# Altium schematic symbol library Interface USB.SchLib: 91 symbols (part 8 of 12)
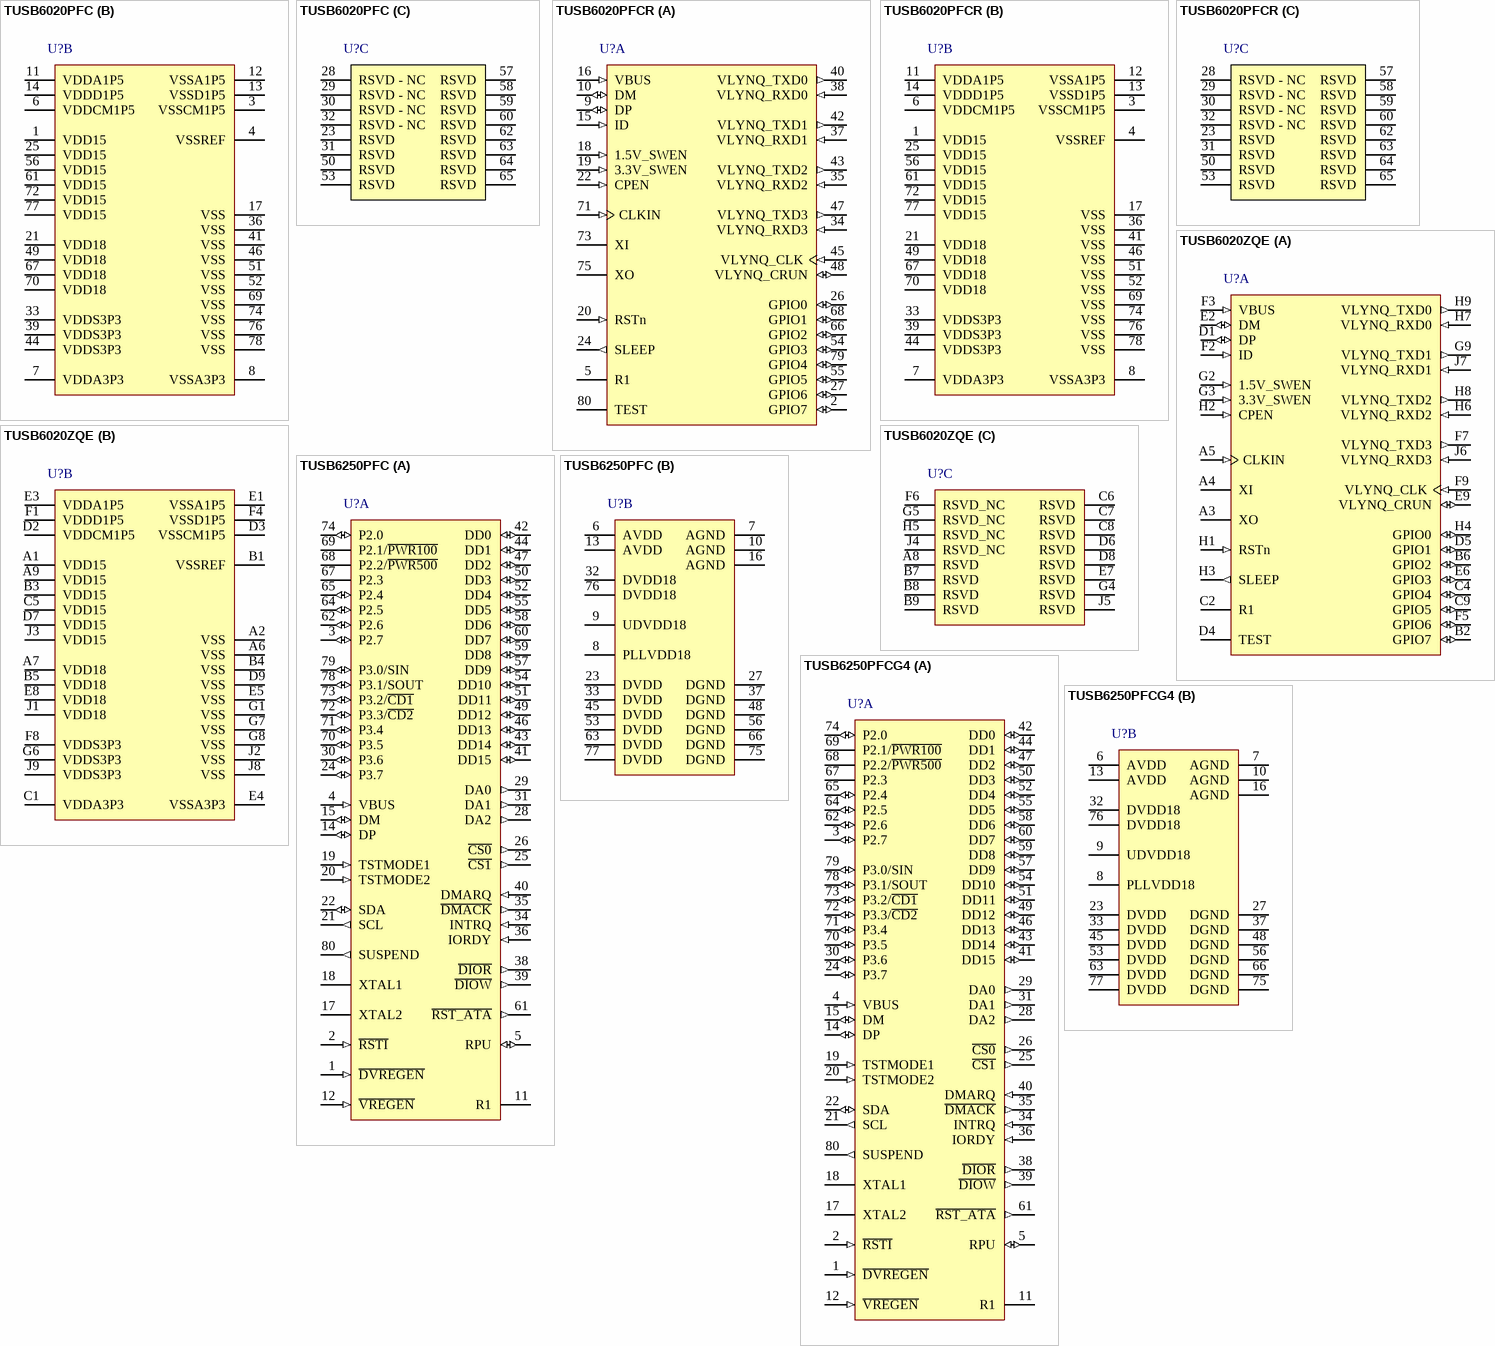
[diagram p15: symbols TUSB6020PFC to TUSB6250PFCG4]

## TUSB6020PFC
designator U?
USB 2.0 High-Speed On-the-Go Local Bus Interface Bridge Controller, 1.5 / 1.8 / 3.3V, 0 to 70 degC, 80-Pin TQFP (PFC), Green (RoHS & no Sb/Br); PartNumber: TUSB6020PFC; Manufacturer: Texas Instruments; SubFamily: USB Host and On-the-Go; Supply Voltage(s)(V): 1.5, 1.8, 3.3; USB Speed: High; Max# Host Ports: 1; App Proc Local Bus: VLYNQ; DatasheetVersion: SCPS170E; PackageVersion: revB, Nov-1996; PackageReference: PFC80; PackageDescription: 80-Pin Plastic Quad Flat Pack, 12 x 12 mm Body, 0.5 mm Pitch; Mounting Technology: Surface Mount; Eco-Plan: Green (RoHS & no Sb/Br); Code_JEDEC: MS-026; ComponentLink1Description: Datasheet; ComponentLink1URL: http://www.ti.com/general/docs/lit/getliterature.tsp?genericPartNumber=TUSB6020&fileType=pdf; ComponentLink2Description: Package Specification; ComponentLink2URL: http://www.ti.com/litv/pdf/mtqf009a
footprint PFC80_N (Thin QFP, 80-Leads, Body 12x12mm, Pitch 0.5mm, IPC Medium Density)
footprint PFC80_L (Thin QFP, 80-Leads, Body 12x12mm, Pitch 0.5mm, IPC High Density)
footprint PFC80_M (Thin QFP, 80-Leads, Body 12x12mm, Pitch 0.5mm, IPC Low Density)
part A pins: 2 GPIO7 (io) "GPIO 7. Must be pulled low for proper operation. It is recommended to tie this signal directly to GND.", 5 R1 "High-precision external resistor used for calibration(R1 value: 10.7 k ohm +/-1%)", 9 DP (io) "USB differential pair", 10 DM (io) "USB differential pair", 15 ID (in) "Indicates default master for OTG. For more information, see On-the-Go Supplement to the USB Specification, Revision 1.2.", 16 VBUS (in) "Charged, discharged, and monitored for OTG host negotiation protocol and session request protocol.External power distribution switch provides up to 500 mA.", 18 1.5V_SWEN (in) "Switch enable for 1.5-V LDO for VBAT/VBUS switch", 19 3.3V_SWEN (in) "Switch enable for 3.3-V CP/LDO for VBAT/VBUS switch", 20 RSTn (in) "Reset active low", 22 CPEN (in) "5-V power distribution switch enable", 24 SLEEP (out) "OTG sleep", 26 GPIO0 (io) "GPIO 0", 27 GPIO6 (io) "GPIO 6. Input clock source select at reset.GPIO6 = HIGH, CLKIN is reference clock.GPIO6 = LOW, XI is reference clock.", 34 VLYNQ_RXD3 (in) "VLYNQ receive data bit 3", 35 VLYNQ_RXD2 (in) "VLYNQ receive data bit 2", 37 VLYNQ_RXD1 (in) "VLYNQ receive data bit 1", 38 VLYNQ_RXD0 (in) "VLYNQ receive data bit 0", 40 VLYNQ_TXD0 (out) "VLYNQ transmit data bit 0", 42 VLYNQ_TXD1 (out) "VLYNQ transmit data bit 1", 43 VLYNQ_TXD2 (out) "VLYNQ transmit data bit 2", 45 VLYNQ_CLK (in) "VLYNQ clock", 47 VLYNQ_TXD3 (out) "VLYNQ transmit data bit 3", 48 VLYNQ_CRUN (io) "VLYNQ clock run", 54 GPIO3 (io) "GPIO 3", 55 GPIO5 (io) "GPIO 5", 66 GPIO2 (io) "GPIO 2", 68 GPIO1 (io) "GPIO 1", 71 CLKIN (in) "19.2-MHz system clock in. Connect directly to ground if  not used.", 73 XI "Crystal input. Should be left unconnected if not used.", 75 XO "Crystal output. Should be left unconnected if not used.", 79 GPIO4 (io) "GPIO 4", 80 TEST (power) "Test mode. Under normal operation, this signal should be tied directly to GND."
part B pins: 1 VDD15 (power) "Digital core power supply, 1.5 V", 3 VSSCM1P5 (power) "1.5-V PLL ground", 4 VSSREF (power) "Ground for the reference circuits", 6 VDDCM1P5 (power) "1.5-V PLL supply", 7 VDDA3P3 (power) "3.3-V analog supply", 8 VSSA3P3 (power) "3.3-V analog ground", 11 VDDA1P5 (power) "1.5-V analog supply", 12 VSSA1P5 (power) "1.5-V analog ground", 13 VSSD1P5 (power) "1.5-V digital ground", 14 VDDD1P5 (power) "1.5-V digital supply", 17 VSS (power) "Ground", 21 VDD18 (power) "I/O power supply, 1.8 V", 25 VDD15 (power) "Digital core power supply, 1.5 V", 33 VDDS3P3 (power) "VLYNQ supply, 3.3 V", 36 VSS (power) "Ground", 39 VDDS3P3 (power) "VLYNQ supply, 3.3 V", 41 VSS (power) "Ground", 44 VDDS3P3 (power) "VLYNQ supply, 3.3 V", 46 VSS (power) "Ground", 49 VDD18 (power) "I/O power supply, 1.8 V", 51 VSS (power) "Ground", 52 VSS (power) "Ground", 56 VDD15 (power) "Digital core power supply, 1.5 V", 61 VDD15 (power) "Digital core power supply, 1.5 V", 67 VDD18 (power) "I/O power supply, 1.8 V", 69 VSS (power) "Ground", 70 VDD18 (power) "I/O power supply, 1.8 V", 72 VDD15 (power) "Digital core power supply, 1.5 V", 74 VSS (power) "Ground", 76 VSS (power) "Ground", 77 VDD15 (power) "Digital core power supply, 1.5 V", 78 VSS (power) "Ground"
part C pins: 23 RSVD "Reserved, must be pulled low by individual pulldown resistors. A 1-k ohm value is recommended.", 28 RSVD - NC "Reserved, should be left unconnected", 29 RSVD - NC "Reserved, should be left unconnected", 30 RSVD - NC "Reserved, should be left unconnected", 31 RSVD "Reserved, must be pulled low by individual pulldown resistors. A 1-k ohm value is recommended.", 32 RSVD - NC "Reserved, should be left unconnected", 50 RSVD "Reserved, must be pulled low by individual pulldown resistors. A 1-k ohm value is recommended.", 53 RSVD "Reserved, must be pulled low by individual pulldown resistors. A 1-k ohm value is recommended.", 57 RSVD "Reserved, must be pulled low by individual pulldown resistors. A 1-k ohm value is recommended.", 58 RSVD "Reserved, must be pulled low by individual pulldown resistors. A 1-k ohm value is recommended.", 59 RSVD "Reserved, must be pulled low by individual pulldown resistors. A 1-k ohm value is recommended.", 60 RSVD "Reserved, must be pulled low by individual pulldown resistors. A 1-k ohm value is recommended.", 62 RSVD "Reserved, must be pulled low by individual pulldown resistors. A 1-k ohm value is recommended.", 63 RSVD "Reserved, must be pulled low by individual pulldown resistors. A 1-k ohm value is recommended.", 64 RSVD "Reserved, must be pulled low by individual pulldown resistors. A 1-k ohm value is recommended.", 65 RSVD "Reserved, must be pulled low by individual pulldown resistors. A 1-k ohm value is recommended."

## TUSB6020PFCR
designator U?
USB 2.0 High-Speed On-the-Go Local Bus Interface Bridge Controller, 1.5 / 1.8 / 3.3V, 0 to 70 degC, 80-Pin TQFP (PFC), Green (RoHS & no Sb/Br); PartNumber: TUSB6020PFCR; Manufacturer: Texas Instruments; SubFamily: USB Host and On-the-Go; Supply Voltage(s)(V): 1.5, 1.8, 3.3; USB Speed: High; Max# Host Ports: 1; App Proc Local Bus: VLYNQ; DatasheetVersion: SCPS170E; PackageVersion: revB, Nov-1996; PackageReference: PFC80; PackageDescription: 80-Pin Plastic Quad Flat Pack, 12 x 12 mm Body, 0.5 mm Pitch; Mounting Technology: Surface Mount; Eco-Plan: Green (RoHS & no Sb/Br); Code_JEDEC: MS-026; ComponentLink1Description: Datasheet; ComponentLink1URL: http://www.ti.com/general/docs/lit/getliterature.tsp?genericPartNumber=TUSB6020&fileType=pdf; ComponentLink2Description: Package Specification; ComponentLink2URL: http://www.ti.com/litv/pdf/mtqf009a
footprint PFC80_N (Thin QFP, 80-Leads, Body 12x12mm, Pitch 0.5mm, IPC Medium Density)
footprint PFC80_L (Thin QFP, 80-Leads, Body 12x12mm, Pitch 0.5mm, IPC High Density)
footprint PFC80_M (Thin QFP, 80-Leads, Body 12x12mm, Pitch 0.5mm, IPC Low Density)
part A pins: 2 GPIO7 (io) "GPIO 7. Must be pulled low for proper operation. It is recommended to tie this signal directly to GND.", 5 R1 "High-precision external resistor used for calibration(R1 value: 10.7 k ohm +/-1%)", 9 DP (io) "USB differential pair", 10 DM (io) "USB differential pair", 15 ID (in) "Indicates default master for OTG. For more information, see On-the-Go Supplement to the USB Specification, Revision 1.2.", 16 VBUS (in) "Charged, discharged, and monitored for OTG host negotiation protocol and session request protocol.External power distribution switch provides up to 500 mA.", 18 1.5V_SWEN (in) "Switch enable for 1.5-V LDO for VBAT/VBUS switch", 19 3.3V_SWEN (in) "Switch enable for 3.3-V CP/LDO for VBAT/VBUS switch", 20 RSTn (in) "Reset active low", 22 CPEN (in) "5-V power distribution switch enable", 24 SLEEP (out) "OTG sleep", 26 GPIO0 (io) "GPIO 0", 27 GPIO6 (io) "GPIO 6. Input clock source select at reset.GPIO6 = HIGH, CLKIN is reference clock.GPIO6 = LOW, XI is reference clock.", 34 VLYNQ_RXD3 (in) "VLYNQ receive data bit 3", 35 VLYNQ_RXD2 (in) "VLYNQ receive data bit 2", 37 VLYNQ_RXD1 (in) "VLYNQ receive data bit 1", 38 VLYNQ_RXD0 (in) "VLYNQ receive data bit 0", 40 VLYNQ_TXD0 (out) "VLYNQ transmit data bit 0", 42 VLYNQ_TXD1 (out) "VLYNQ transmit data bit 1", 43 VLYNQ_TXD2 (out) "VLYNQ transmit data bit 2", 45 VLYNQ_CLK (in) "VLYNQ clock", 47 VLYNQ_TXD3 (out) "VLYNQ transmit data bit 3", 48 VLYNQ_CRUN (io) "VLYNQ clock run", 54 GPIO3 (io) "GPIO 3", 55 GPIO5 (io) "GPIO 5", 66 GPIO2 (io) "GPIO 2", 68 GPIO1 (io) "GPIO 1", 71 CLKIN (in) "19.2-MHz system clock in. Connect directly to ground if  not used.", 73 XI "Crystal input. Should be left unconnected if not used.", 75 XO "Crystal output. Should be left unconnected if not used.", 79 GPIO4 (io) "GPIO 4", 80 TEST (power) "Test mode. Under normal operation, this signal should be tied directly to GND."
part B pins: 1 VDD15 (power) "Digital core power supply, 1.5 V", 3 VSSCM1P5 (power) "1.5-V PLL ground", 4 VSSREF (power) "Ground for the reference circuits", 6 VDDCM1P5 (power) "1.5-V PLL supply", 7 VDDA3P3 (power) "3.3-V analog supply", 8 VSSA3P3 (power) "3.3-V analog ground", 11 VDDA1P5 (power) "1.5-V analog supply", 12 VSSA1P5 (power) "1.5-V analog ground", 13 VSSD1P5 (power) "1.5-V digital ground", 14 VDDD1P5 (power) "1.5-V digital supply", 17 VSS (power) "Ground", 21 VDD18 (power) "I/O power supply, 1.8 V", 25 VDD15 (power) "Digital core power supply, 1.5 V", 33 VDDS3P3 (power) "VLYNQ supply, 3.3 V", 36 VSS (power) "Ground", 39 VDDS3P3 (power) "VLYNQ supply, 3.3 V", 41 VSS (power) "Ground", 44 VDDS3P3 (power) "VLYNQ supply, 3.3 V", 46 VSS (power) "Ground", 49 VDD18 (power) "I/O power supply, 1.8 V", 51 VSS (power) "Ground", 52 VSS (power) "Ground", 56 VDD15 (power) "Digital core power supply, 1.5 V", 61 VDD15 (power) "Digital core power supply, 1.5 V", 67 VDD18 (power) "I/O power supply, 1.8 V", 69 VSS (power) "Ground", 70 VDD18 (power) "I/O power supply, 1.8 V", 72 VDD15 (power) "Digital core power supply, 1.5 V", 74 VSS (power) "Ground", 76 VSS (power) "Ground", 77 VDD15 (power) "Digital core power supply, 1.5 V", 78 VSS (power) "Ground"
part C pins: 23 RSVD "Reserved, must be pulled low by individual pulldown resistors. A 1-k ohm value is recommended.", 28 RSVD - NC "Reserved, should be left unconnected", 29 RSVD - NC "Reserved, should be left unconnected", 30 RSVD - NC "Reserved, should be left unconnected", 31 RSVD "Reserved, must be pulled low by individual pulldown resistors. A 1-k ohm value is recommended.", 32 RSVD - NC "Reserved, should be left unconnected", 50 RSVD "Reserved, must be pulled low by individual pulldown resistors. A 1-k ohm value is recommended.", 53 RSVD "Reserved, must be pulled low by individual pulldown resistors. A 1-k ohm value is recommended.", 57 RSVD "Reserved, must be pulled low by individual pulldown resistors. A 1-k ohm value is recommended.", 58 RSVD "Reserved, must be pulled low by individual pulldown resistors. A 1-k ohm value is recommended.", 59 RSVD "Reserved, must be pulled low by individual pulldown resistors. A 1-k ohm value is recommended.", 60 RSVD "Reserved, must be pulled low by individual pulldown resistors. A 1-k ohm value is recommended.", 62 RSVD "Reserved, must be pulled low by individual pulldown resistors. A 1-k ohm value is recommended.", 63 RSVD "Reserved, must be pulled low by individual pulldown resistors. A 1-k ohm value is recommended.", 64 RSVD "Reserved, must be pulled low by individual pulldown resistors. A 1-k ohm value is recommended.", 65 RSVD "Reserved, must be pulled low by individual pulldown resistors. A 1-k ohm value is recommended."

## TUSB6020ZQE
designator U?
USB 2.0 High-Speed On-the-Go Local Bus Interface Bridge Controller, 1.5 / 1.8 / 3.3V, 0 to 70 degC, 80-Pin BGAMICROSTAR JUNIOR (ZQE), Green (RoHS & no Sb/Br); PartNumber: TUSB6020ZQE; Manufacturer: Texas Instruments; SubFamily: USB Host and On-the-Go; Supply Voltage(s)(V): 1.5, 1.8, 3.3; USB Speed: High; Max# Host Ports: 1; App Proc Local Bus: VLYNQ; DatasheetVersion: SCPS170E; PackageVersion: revF, Jul-2011; PackageReference: ZQE80; PackageDescription: 80-Ball Plastic Ball Grid Array, 5 x 5 mm Body, 0.5 mm Pitch; Mounting Technology: Surface Mount; Eco-Plan: Green (RoHS & no Sb/Br); Code_JEDEC: MO-225; ComponentLink1Description: Datasheet; ComponentLink1URL: http://www.ti.com/general/docs/lit/getliterature.tsp?genericPartNumber=TUSB6020&fileType=pdf; ComponentLink2Description: Package Specification; ComponentLink2URL: http://www.ti.com/litv/pdf/mpbg269e
footprint ZQE80 (BGA, 80-Leads, Body 5x5mm, Pitch 0.5mm)
part A pins: A3 XO "Crystal output. Should be left unconnected if not used.", A4 XI "Crystal input. Should be left unconnected if not used.", A5 CLKIN (in) "19.2-MHz system clock in. Connect directly to ground if not used.", B2 GPIO7 (io) "GPIO 7.Must be pulled low for proper operation.It is recommended to tie this signal directly to GND.", B6 GPIO2 (io), C2 R1 "High-precision external resistor used for calibration (R1 value:10.7 k ohm +/-1%)", C4 GPIO4 (io), C9 GPIO5 (io), D1 DP (io) "USB differential pair", D4 TEST (power) "Test mode. Under normal operation, this signal should be tied directly to GND.", D5 GPIO1 (io) "GPIO 1", E2 DM (io) "USB differential pair", E6 GPIO3 (io), E9 VLYNQ_CRUN (io) "VLYNQ clock run", F2 ID (in) "Indicates default master for OTG. For more information, see On-the-Go Supplement to the USB Specification, Revision 1.2.", F3 VBUS (in) "Charged, discharged, and monitored for OTG host negotiation protocol and session request protocol. External power distribution switch provides up to 500 mA.", F5 GPIO6 (io) "GPIO 6. Input clock source select at reset.GPIO6 = HIGH, CLKIN is reference clock.GPIO6 = LOW, XI is reference clock.", F7 VLYNQ_TXD3 (out) "VLYNQ transmit data bit 3", F9 VLYNQ_CLK (in) "VLYNQ clock", G2 1.5V_SWEN (in) "Switch enable for 1.5-V LDO for VBAT/VBUS switch", G3 3.3V_SWEN (in) "Switch enable for 3.3-V CP/LDO for VBAT/VBUS switch", G9 VLYNQ_TXD1 (out) "VLYNQ transmit data bit 1", H1 RSTn (in) "Reset active low", H2 CPEN (in) "5-V power distribution switch enable", H3 SLEEP (out) "OTG sleep", H4 GPIO0 (io), H6 VLYNQ_RXD2 (in) "VLYNQ receive data bit 2", H7 VLYNQ_RXD0 (in) "VLYNQ receive data bit 0", H8 VLYNQ_TXD2 (out) "VLYNQ transmit data bit 2", H9 VLYNQ_TXD0 (out) "VLYNQ transmit data bit 0", J6 VLYNQ_RXD3 (in) "VLYNQ receive data bit 3", J7 VLYNQ_RXD1 (in) "VLYNQ receive data bit 1"
part B pins: A1 VDD15 (power) "Digital core power supply, 1.5V", A2 VSS (power) "Ground", A6 VSS (power) "Ground", A7 VDD18 (power) "I/O power supply, 1.8 V", A9 VDD15 (power) "Digital core power supply, 1.5 V", B1 VSSREF (power) "Ground for the reference circuits", B3 VDD15 (power) "Digital core power supply, 1.5 V", B4 VSS (power) "Ground", B5 VDD18 (power) "I/O power supply, 1.8 V", C1 VDDA3P3 (power) "3.3-V analog supply", C5 VDD15 (power) "Digital core power supply, 1.5 V", D2 VDDCM1P5 (power) "1.5-V PLL supply", D3 VSSCM1P5 (power) "1.5-V PLL ground", D7 VDD15 (power) "Digital core power supply, 1.5 V", D9 VSS (power) "Ground", E1 VSSA1P5 (power) "1.5-V analog ground", E3 VDDA1P5 (power) "1.5-V analog supply", E4 VSSA3P3 (power) "3.3-V analog ground", E5 VSS (power) "Ground", E8 VDD18 (power) "I/O power supply, 1.8 V", F1 VDDD1P5 (power) "1.5-V digital supply", F4 VSSD1P5 (power) "1.5-V digital ground", F8 VDDS3P3 (power) "VLYNQ supply, 3.3 V", G1 VSS (power) "Ground", G6 VDDS3P3 (power) "VLYNQ supply, 3.3 V", G7 VSS (power) "Ground", G8 VSS (power) "Ground", J1 VDD18 (power) "I/O power supply, 1.8 V", J2 VSS (power) "Ground", J3 VDD15 (power) "Digital core power supply, 1.5 V", J8 VSS (power) "Ground", J9 VDDS3P3 (power) "VLYNQ supply, 3.3 V"
part C pins: A8 RSVD "Reserved,must  be pulled low by individual pulldown resistors. A 1-k ohm value is recommended.", B7 RSVD "Reserved,must  be pulled low by individual pulldown resistors. A 1-k ohm value is recommended.", B8 RSVD "Reserved,must  be pulled low by individual pulldown resistors. A 1-k ohm value is recommended.", B9 RSVD "Reserved,must  be pulled low by individual pulldown resistors. A 1-k ohm value is recommended.", C6 RSVD "Reserved,must  be pulled low by individual pulldown resistors. A 1-k ohm value is recommended.", C7 RSVD "Reserved,must  be pulled low by individual pulldown resistors. A 1-k ohm value is recommended.", C8 RSVD "Reserved,must  be pulled low by individual pulldown resistors. A 1-k ohm value is recommended.", D6 RSVD "Reserved,must  be pulled low by individual pulldown resistors. A 1-k ohm value is recommended.", D8 RSVD "Reserved,must  be pulled low by individual pulldown resistors. A 1-k ohm value is recommended.", E7 RSVD "Reserved,must  be pulled low by individual pulldown resistors. A 1-k ohm value is recommended.", F6 RSVD_NC "Reserved, should be left unconnected", G4 RSVD "Reserved,must  be pulled low by individual pulldown resistors. A 1-k ohm value is recommended.", G5 RSVD_NC "Reserved, should be left unconnected", H5 RSVD_NC "Reserved, should be left unconnected", J4 RSVD_NC "Reserved, should be left unconnected", J5 RSVD "Reserved,must  be pulled low by individual pulldown resistors. A 1-k ohm value is recommended."

## TUSB6250PFC
designator U?
30 MIPs, USB 2.0 Low-Power, High-Speed ATA/ATAPI Bridge Solution, 32 KBytes, 8051 WARP, 3.3V, 0 to 70 degC, 80-Pin TQFP (PFC), Green (RoHS & no Sb/Br); PartNumber: TUSB6250PFC; Manufacturer: Texas Instruments; SubFamily: USB Peripheral; MCU Speed(Max)(MIPs): 30; Number of Endpoints IN: 4; Supply Voltage(s)(V): 3.3; Application Interface: IDE, ATA, ATAPI; GPIO Pins(#): 16; USB Speed: High; Bulk Transfer: True; MCU Code Space(KBytes): 32; DatasheetVersion: SLLS535E; PackageVersion: revB, Nov-1996; PackageReference: PFC80; PackageDescription: 80-Pin Plastic Quad Flat Pack, 12 x 12 mm Body, 0.5 mm Pitch; Mounting Technology: Surface Mount; Eco-Plan: Green (RoHS & no Sb/Br); Number of Endpoints OUT: 4; Integrated MCU Architecture: 8051 WARP; Control Transfer: True; DMA: True; Interrupt Transfer: True; Remote Wakeup: True; Code_JEDEC: MS-026; ComponentLink1Description: Datasheet; ComponentLink1URL: http://www.ti.com/general/docs/lit/getliterature.tsp?genericPartNumber=TUSB6250&fileType=pdf; ComponentLink2Description: Package Specification; ComponentLink2URL: http://www.ti.com/litv/pdf/mtqf009a
footprint PFC80_N (Thin QFP, 80-Leads, Body 12x12mm, Pitch 0.5mm, IPC Medium Density)
footprint PFC80_L (Thin QFP, 80-Leads, Body 12x12mm, Pitch 0.5mm, IPC High Density)
footprint PFC80_M (Thin QFP, 80-Leads, Body 12x12mm, Pitch 0.5mm, IPC Low Density)
part A pins: 1 ~{DVREGEN} (in) "This active-low terminal is used to enable the 3.3-V to 1.8-V voltage regulator in the TUSB6250’s digital core. When this terminal is de-asserted, the voltage regulator is disabled and 1.8 V must be supplied externally. TI (See Datasheet)", 2 ~{RSTI} (in) "The TUSB6250 master reset signal. This active-low terminal is the master reset signal for the TUSB6250. See Section 13.2, Reset Timing Reference, for  detailed reset timing information.", 3 P2.7 (io) "General-purpose I/O with an internal controllable pullup resistor. After a power-on reset, this terminal defaults as an input with an internal pullup resistor activated. The MCU can disable the pullup resistor if desired", 4 VBUS (in) "This terminal monitors the status of the USB upstream VBUS. It has the internal pulldown resistor enabled as the power-on reset default.", 5 RPU (io) "Pullup resistor connection. This terminal is used to attach and detach the full-speed indicator resistor electrically to/from the DP signal line. An external 1.5-k ohm  +/-5% resistor must be placed between RPU and AVDD.", 11 R1 "External reference resistor. An internally generated band-gap voltage is placed on this resistor. The current through the resistor is mirrored internally to generate the current and voltage used by the internal analog (See Datasheet)", 12 ~{VREGEN} (in) "Voltage regulator enable (active-low). Two internal 3.3-V to 1.8-V voltage regulators supply the digital and PLL circuitry when this terminal is asserted. When this terminal is de-asserted, the voltage regulators are (See Datasheet)", 14 DP (io) "USB differential data plus", 15 DM (io) "USB differential data minus", 17 XTAL2 "24-MHz crystal output. This terminal has a 1.8-V LVCMOS output buffer", 18 XTAL1 "24-MHz crystal input. This terminal has a 1.8-V LVCMOS input buffer", 19 TSTMODE1 (in) "These terminals are used for factory test of the TUSB6250. During normal operation, these terminals must be left open", 20 TSTMODE2 (in) "These terminals are used for factory test of the TUSB6250. During normal operation, these terminals must be left open", 21 SCL (out) "Master I2C controller: clock signal for external I2C serial EEPROM. The internal 100-uA pullup resistor on this terminal is always enabled.", 22 SDA (io) "Master I2C controller: data signal for external I2C serial EEPROM. The internal 100-uA pullup resistor on this terminal is always enabled.", 24 P3.7 (io) "5-V fail-safe general-purpose I/O with internal configurable pullup and pulldown resistors. This terminal can be used as a GPIO or P\D\I\A\G\ function to be implemented by the end-product developerdeveloper’s custom firmware.(See Datasheet)", 25 ~{CS1} (out) "ATA/ATAPI: Drive chip select-1. Used to select the control block registers defined by the ATA/ATAPI-5 specification. This terminal should be connected to the corresponding pin of the ATA/ATAPI interface connector on the (See Datasheet)", 26 ~{CS0} (out) "ATA/ATAPI: Drive chip select-0. Used to select the command block registers defined by the ATA/ATAPI-5 specification. This terminal should be connected to the corresponding pin of the ATA/ATAPI interface connector on the (See Datasheet)", 28 DA2 (out) "ATA/ATAPI: These three address lines are used to select the ATA/ATAPI drive registers as defined by the ATA/ATAPI-5 specification. These terminals should be connected to the corresponding pins of the ATA/ATAPI interface (See Datasheet)", 29 DA0 (out) "ATA/ATAPI: These three address lines are used to select the ATA/ATAPI drive registers as defined by the ATA/ATAPI-5 specification. These terminals should be connected to the corresponding pins of the ATA/ATAPI interface (See Datasheet)", 30 P3.6 (io) "5-V fail-safe general-purpose I/O with internal configurable pullup and pulldown resistors. This terminal can be used as a GPIO or P\D\I\A\G\ function to be implemented by the end-product developerdeveloper’s custom firmware.(See Datasheet)", 31 DA1 (out) "ATA/ATAPI: These three address lines are used to select the ATA/ATAPI drive registers as defined by the ATA/ATAPI-5 specification. These terminals should be connected to the corresponding pins of the ATA/ATAPI interface (See Datasheet)", 34 INTRQ (in) "ATA/ATAPI: Interrupt request. The ATA device asserts this signal when it has a pending interrupt. This 5-V fail-safe terminal has internal configurable pullup and pulldown resistors. The power-up default is the pulldown (See Datasheet)", 35 ~{DMACK} (out) "ATA/ATAPI: DMA acknowledge. This terminal should be connected to the corresponding pin of the ATA/ATAPI interface connector on the end-product PCB", 36 IORDY (in) "ATA/ATAPI: Channel ready. This 5-V fail-safe terminal has internal configurable pullup and pulldown resistors. The power-up default is the pullup resistor enabled. This terminal should be connected to the corresponding pin (See Datasheet)", 38 ~{DIOR} (out) "ATA/ATAPI: Read strobe signal. This terminal should be connected to the corresponding pin of the ATA/ATAPI interface connector on the end-product PCB", 39 ~{DIOW} (out) "ATA/ATAPI: Write strobe signal. This terminal should be connected to the corresponding pin of the ATA/ATAPI interface connector on the end-product PCB", 40 DMARQ (in) "ATA/ATAPI: DMA request. This 5-V fail-safe terminal has an internal controllable pulldown resistor. The power-up default is the pulldown resistor enabled. This terminal should be connected to the corresponding pin of the (See Datasheet)", 41 DD15 (io) "ATA/ATAPI: 16-bit I/O data bus. These terminals are all 5-V fail-safe with internal controllable pulldown resistors. These terminals should be connected to the corresponding pins of the ATA/ATAPI interface connector on the (See Datasheet)", 42 DD0 (io) "ATA/ATAPI: 16-bit I/O data bus. These terminals are all 5-V fail-safe with internal controllable pulldown resistors. These terminals should be connected to the corresponding pins of the ATA/ATAPI interface connector on the (See Datasheet)", 43 DD14 (io) "ATA/ATAPI: 16-bit I/O data bus. These terminals are all 5-V fail-safe with internal controllable pulldown resistors. These terminals should be connected to the corresponding pins of the ATA/ATAPI interface connector on the (See Datasheet)", 44 DD1 (io) "ATA/ATAPI: 16-bit I/O data bus. These terminals are all 5-V fail-safe with internal controllable pulldown resistors. These terminals should be connected to the corresponding pins of the ATA/ATAPI interface connector on the (See Datasheet)", 46 DD13 (io) "ATA/ATAPI: 16-bit I/O data bus. These terminals are all 5-V fail-safe with internal controllable pulldown resistors. These terminals should be connected to the corresponding pins of the ATA/ATAPI interface connector on the (See Datasheet)", 47 DD2 (io) "ATA/ATAPI: 16-bit I/O data bus. These terminals are all 5-V fail-safe with internal controllable pulldown resistors. These terminals should be connected to the corresponding pins of the ATA/ATAPI interface connector on the (See Datasheet)", 49 DD12 (io) "ATA/ATAPI: 16-bit I/O data bus. These terminals are all 5-V fail-safe with internal controllable pulldown resistors. These terminals should be connected to the corresponding pins of the ATA/ATAPI interface connector on the (See Datasheet)", 50 DD3 (io) "ATA/ATAPI: 16-bit I/O data bus. These terminals are all 5-V fail-safe with internal controllable pulldown resistors. These terminals should be connected to the corresponding pins of the ATA/ATAPI interface connector on the (See Datasheet)", 51 DD11 (io) "ATA/ATAPI: 16-bit I/O data bus. These terminals are all 5-V fail-safe with internal controllable pulldown resistors. These terminals should be connected to the corresponding pins of the ATA/ATAPI interface connector on the (See Datasheet)", 52 DD4 (io) "ATA/ATAPI: 16-bit I/O data bus. These terminals are all 5-V fail-safe with internal controllable pulldown resistors. These terminals should be connected to the corresponding pins of the ATA/ATAPI interface connector on the (See Datasheet)", 54 DD10 (io) "ATA/ATAPI: 16-bit I/O data bus. These terminals are all 5-V fail-safe with internal controllable pulldown resistors. These terminals should be connected to the corresponding pins of the ATA/ATAPI interface connector on the (See Datasheet)", 55 DD5 (io) "ATA/ATAPI: 16-bit I/O data bus. These terminals are all 5-V fail-safe with internal controllable pulldown resistors. These terminals should be connected to the corresponding pins of the ATA/ATAPI interface connector on the (See Datasheet)", 57 DD9 (io) "ATA/ATAPI: 16-bit I/O data bus. These terminals are all 5-V fail-safe with internal controllable pulldown resistors. These terminals should be connected to the corresponding pins of the ATA/ATAPI interface connector on the (See Datasheet)", 58 DD6 (io) "ATA/ATAPI: 16-bit I/O data bus. These terminals are all 5-V fail-safe with internal controllable pulldown resistors. These terminals should be connected to the corresponding pins of the ATA/ATAPI interface connector on the (See Datasheet)", 59 DD8 (io) "ATA/ATAPI: 16-bit I/O data bus. These terminals are all 5-V fail-safe with internal controllable pulldown resistors. These terminals should be connected to the corresponding pins of the ATA/ATAPI interface connector on the (See Datasheet)", 60 DD7 (io) "ATA/ATAPI: 16-bit I/O data bus. These terminals are all 5-V fail-safe with internal controllable pulldown resistors. These terminals should be connected to the corresponding pins of the ATA/ATAPI interface connector on the (See Datasheet)", 61 ~{RST_ATA} (out) "ATA/ATAPI: Asynchronous drive-reset signal. This terminal should be connected to the corresponding pin of the ATA/ATAPI interface connector on the end-product PCB", 62 P2.6 (io) "5-V fail-safe general-purpose I/O with internal configurable pullup and pulldown resistors. After power-on reset, these terminals default as inputs with the internal pullup resistor activated. The MCU can reconfigure the (See Datasheet)", 64 P2.5 (io) "5-V fail-safe general-purpose I/O with internal configurable pullup and pulldown resistors. After power-on reset, these terminals default as inputs with the internal pullup resistor activated. The MCU can reconfigure the (See Datasheet)", 65 P2.4 (io) "5-V fail-safe general-purpose I/O with internal configurable pullup and pulldown resistors. After power-on reset, these terminals default as inputs with the internal pullup resistor activated. The MCU can reconfigure the (See Datasheet)", 67 P2.3 (oc) "General-purpose open-drain output without internal pullup and pulldown resistors", 68 P2.2/~{PWR500} (oc) "General-purpose open-drain output. This terminal can be controlled by the firmware to inform the ATA/ATAPI device connected to the TUSB6250 that the end-product device (including the TUSB6250 itself) is allowed to draw 500 (See Datasheet)", 69 P2.1/~{PWR100} (oc) "General-purpose open-drain output. During the USB enumeration phase, This terminal is asserted by the boot code to inform the ATA/ATAPI device connected to the TUSB6250 that the end-product device (including the TUSB6250 (See Datasheet)", 70 P3.5 (io) "5-V fail-safe general-purpose I/O with internal configurable pullup and pulldown resistors. After power-on reset, these terminals default as inputs with an internal pullup resistor activated. The MCU can reconfigure the (See Datasheet)", 71 P3.4 (io) "5-V fail-safe general-purpose I/O with internal configurable pullup and pulldown resistors. After power-on reset, these terminals default as inputs with an internal pullup resistor activated. The MCU can reconfigure the (See Datasheet)", 72 P3.3/~{CD2} (io) "5-V fail-safe general-purpose I/O with internal configurable pullup and pulldown resistors. After power-on reset, these terminals default as inputs with an internal pullup resistor activated. The MCU can reconfigure the (See Datasheet)", 73 P3.2/~{CD1} (io) "5-V fail-safe general-purpose I/O with internal configurable pullup and pulldown resistors. After power-on reset, these terminals default as inputs with an internal pullup resistor activated. The MCU can reconfigure the (See Datasheet)", 74 P2.0 (io) "5-V fail-safe general-purpose I/O with internal configurable pullup and pulldown resistors. After power-on reset, this terminal defaults as an input with the internal pulldown resistor activated. The MCU can reconfigure the (See Datasheet)", 78 P3.1/SOUT (io) "This dual-function terminal can be used as either GPIO or the serial data output of the integrated 8051 microcontroller serial port. The power-up default is to have its internal pullup activated", 79 P3.0/SIN (io) "This dual-function terminal can be used as either GPIO or the serial data input of the integrated 8051 microcontroller serial port. The power-up default is to have its internal pullup activated", 80 SUSPEND (out) "Suspend status indication. This terminal is low during normal operation and active high during suspend. It can be used for external logic power-down operations"
part B pins: 6 AVDD (power) "3.3-V supply voltage for the integrated USB 2.0 UTMI-compliant PHY’s internal analog circuitry. This supply is also regulated internally down to 1.8 V for use by the PHY’s internal digital circuitry when V\R\E\G\E\N\ is (See Datasheet)", 7 AGND (power) "Analog ground. All ground terminals should be connected together externally through a low-impedance path. All bypass capacitors to PLLVDD18, UDVDD18, and AVDD should connect to ground through a low-impedance path", 8 PLLVDD18 (power) "1.8-V supply for the internal PLL circuitry of the integrated USB 2.0 UTMI-compliant PHY. An internal voltage regulator generates this supply when terminal V\R\E\G\E\N\ is asserted. When V\R\E\G\E\N\ is de-asserted, 1.8 V (See Datasheet)", 9 UDVDD18 (power) "1.92-V supply for the internal digital circuitry of the integrated USB 2.0 UTMI-compliant PHY. An internal voltage regulator generates this supply when terminal V\R\E\G\E\N\ is asserted. When V\R\E\G\E\N\ is de-asserted, 1.(See Datasheet)", 10 AGND (power) "Analog ground. All ground terminals should be connected together externally through a low-impedance path. All bypass capacitors to PLLVDD18, UDVDD18, and AVDD should connect to ground through a low-impedance path", 13 AVDD (power) "3.3-V supply voltage for the integrated USB 2.0 UTMI-compliant PHY’s internal analog circuitry. This supply is also regulated internally down to 1.8 V for use by the PHY’s internal digital circuitry when V\R\E\G\E\N\ is (See Datasheet)", 16 AGND (power) "Analog ground. All ground terminals should be connected together externally through a low-impedance path. All bypass capacitors to PLLVDD18, UDVDD18, and AVDD should connect to ground through a low-impedance path", 23 DVDD (power) "3.3-V power-supply terminals for the internal I/O circuitry. Decoupling and filtering capacitors are required on these power supply terminals", 27 DGND (power) "Digital circuit ground terminals. Each ground terminal should be directly connected through a low-impedance path to the ground plane", 32 DVDD18 (power) "1.8-V power supply for the internal digital circuitry of the TUSB6250. An internal voltage regulator generates this supply voltage when terminal D\V\R\E\G\E\N\ is asserted. When D\V\R\E\G\E\N\ is de-asserted, 1.8 V must be (See Datasheet)", 33 DVDD (power) "3.3-V power-supply terminals for the internal I/O circuitry. Decoupling and filtering capacitors are required on these power supply terminals", 37 DGND (power) "Digital circuit ground terminals. Each ground terminal should be directly connected through a low-impedance path to the ground plane", 45 DVDD (power) "3.3-V power-supply terminals for the internal I/O circuitry. Decoupling and filtering capacitors are required on these power supply terminals", 48 DGND (power) "Digital circuit ground terminals. Each ground terminal should be directly connected through a low-impedance path to the ground plane", 53 DVDD (power) "3.3-V power-supply terminals for the internal I/O circuitry. Decoupling and filtering capacitors are required on these power supply terminals", 56 DGND (power) "Digital circuit ground terminals. Each ground terminal should be directly connected through a low-impedance path to the ground plane", 63 DVDD (power) "3.3-V power-supply terminals for the internal I/O circuitry. Decoupling and filtering capacitors are required on these power supply terminals", 66 DGND (power) "Digital circuit ground terminals. Each ground terminal should be directly connected through a low-impedance path to the ground plane", 75 DGND (power) "Digital circuit ground terminals. Each ground terminal should be directly connected through a low-impedance path to the ground plane", 76 DVDD18 (power) "1.8-V power supply for the internal digital circuitry of the TUSB6250. An internal voltage regulator generates this supply voltage when terminal D\V\R\E\G\E\N\ is asserted. When D\V\R\E\G\E\N\ is de-asserted, 1.8 V must be (See Datasheet)", 77 DVDD (power) "3.3-V power-supply terminals for the internal I/O circuitry. Decoupling and filtering capacitors are required on these power supply terminals"